# Altium footprint library Misc.PcbLib: 150 footprints (part 8 of 10)
Each footprint in its own frame and in the unit in brackets; x right, y up, seen from the top. Pads: shape width x height; smd on the part's side, far side on the other; paste and mask are expansions set on the pad; w line width, h text height; cw(c..) or ccw(c..) is an arc to the next point about the centre after c.
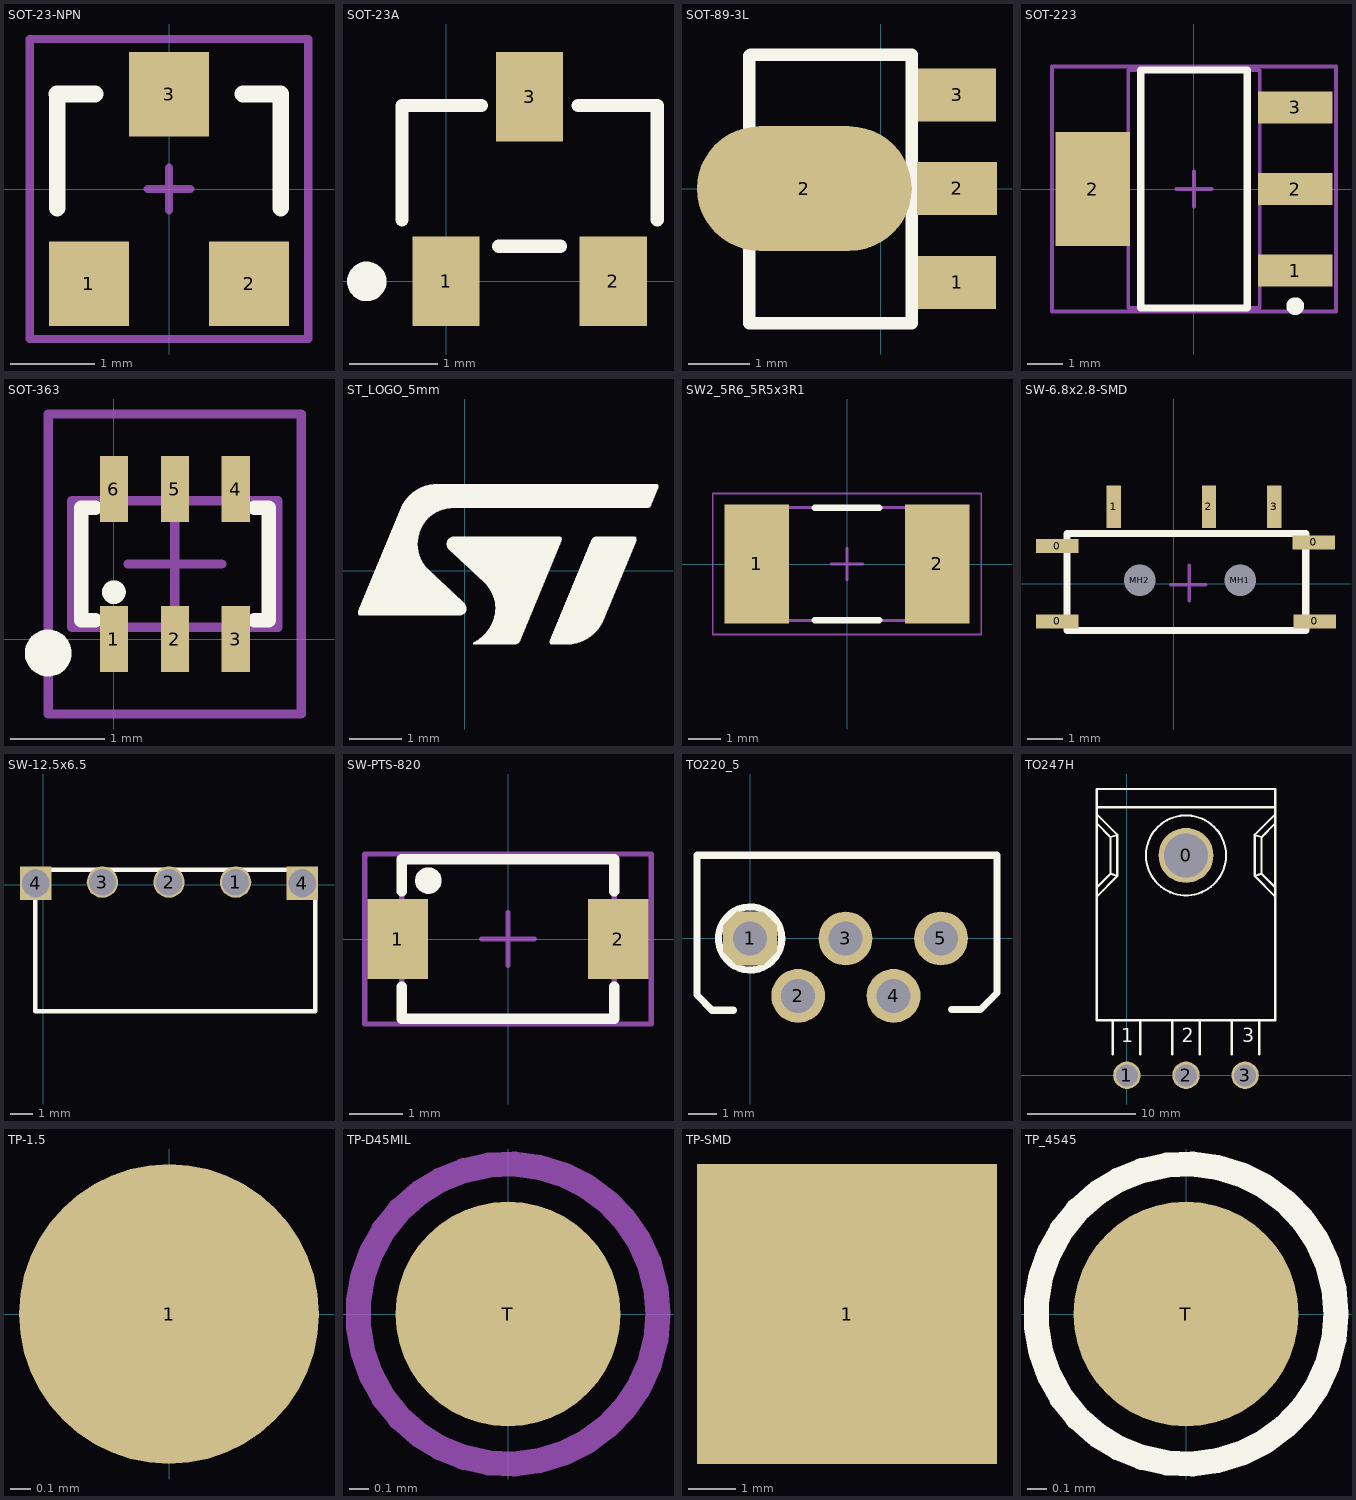
[diagram p7: the footprints below, top view; thin cyan lines are the x and y axes]

## SOT-23-NPN [mm] "Surface mount NPN transistor, package SOT-23"
height 1.1
pads (3):
  rect 0.95x1 smd: 1(-0.95,-1.125) 2(0.95,-1.125) 3(0,1.125)
Top Overlay:
  lines w0.2: -1.328,1.125 -0.875,1.125 ; -1.325,-0.225 -1.325,1.125 ; 0.875,1.125 1.325,1.125 1.325,-0.225
Mechanical 15:
  lines w0.1: -0.254,0 0.254,0 ; 0,-0.254 0,0.254 ; -1.651,-1.778 -1.651,1.778 1.651,1.778 1.651,-1.778 -1.651,-1.778
3D body: height 1.3, standoff 0, extent -1.448,-1.397 1.452,1.403

## SOT-23A [mil] "SOT-23 footprint"
height 43.31
pads (3):
  rect 30x40 smd: 1(0,0) 2(74.8,0) 3(37.4,82.68)
Top Overlay:
  circle w9.84: c-35.43,0 r3.94
  lines w5.91: -19.68,27.56 -19.68,78.74 15.75,78.74 ; 23.62,15.75 51.18,15.75 ; 59.06,78.74 94.49,78.74 94.49,27.56
3D body: height 39.37, standoff 0, extent -20.07,-4.72 94.89,87.41

## SOT-89-3L [mil]
pads (4):
  rect 50x34 smd: 1(49,-60.15) 3(49,60.15)
  oval 137.8x80 smd: 2(-49,0)
  rect 51.18x34 smd: 2(49,0.15)
Top Overlay:
  lines w7.87: -84.36,-86.49 19.81,-86.49 19.81,85.96 -83.55,85.96
  lines w8: -84.36,-86.49 -84.36,85.15

## SOT-223 [mm] "3 LEAD SOT-223 PLASTIC PACKAGE"
height 1.8
pads (4):
  rect 2.1x0.9 smd: 1(2.85,-2.3) 2(2.85,0) 3(2.85,2.3)
  rect 2.1x3.2 smd: 2(-2.85,0)
Top Overlay:
  circle w0.25: c2.85,-3.3 r0.125
  lines w0.2: -1.5,-3.35 -1.5,3.35 1.5,3.35 1.5,-3.35 -1.5,-3.35
Mechanical 13:
  lines w0.1: -1.85,-3.35 -1.85,3.35 1.85,3.35 1.85,-3.35 -1.85,-3.35
Mechanical 15:
  lines w0.1: -0.5,0 0.5,0 ; 0,-0.5 0,0.5 ; -4,-3.45 -4,3.45 4,3.45 4,-3.45 -4,-3.45
3D body: height 1.65, standoff 0, extent -3.543,-3.25 3.543,3.25

## SOT-363 [mm] "SOT-363 (SC88)"
height 1.1
pads (6):
  rect 0.3x0.7 smd: 1(0,0) 2(0.65,0) 3(1.3,0) 4(1.3,1.6) 5(0.65,1.6) 6(0,1.6)
Top Overlay:
  circle w0.152: c0,0.5 r0.05
  circle w0.25: c-0.7,-0.15 r0.125
  lines w0.152: -0.2,0.2 -0.35,0.2 -0.35,1.4 -0.2,1.4 ; 1.5,0.2 1.65,0.2 1.65,1.4 1.5,1.4
Mechanical 13:
  lines w0.1: -0.45,0.125 -0.45,1.475 1.75,1.475 1.75,0.125 -0.45,0.125
Mechanical 15:
  lines w0.1: 0.15,0.8 1.15,0.8 ; 0.65,0.3 0.65,1.3 ; -0.7,-0.8 -0.7,2.4 2,2.4 2,-0.8 -0.7,-0.8
3D body: height 0.93, standoff -0.02, extent -0.35,-0.25 1.65,1.85

## ST_LOGO_5mm [mil]
height 62.99
Top Overlay:
  drawing of 1036 lines, arcs and shapes, not listed

## SW2_5R6_5R5x3R1 [mm] "Subminiature Side Actuated Tact Switch for SMT"
height 1.1
pads (2):
  rect 2x3.7 smd: 1(-2.8,0) 2(2.8,0)
Top Overlay:
  lines w0.2: -1,-1.75 1,-1.75 ; -1,1.75 1,1.75
Mechanical 13:
  lines w0.1: -2.75,-1.75 -2.75,1.75 2.75,1.75 2.75,-1.75 -2.75,-1.75
Mechanical 15:
  lines w0.05: -4.166,-2.184 -4.166,2.184 4.166,2.184 4.166,-2.184 -4.166,-2.184
  lines w0.1: -0.5,0 0.5,0 ; 0,-0.5 0,0.5
3D body: height 1.65, standoff 0.65, extent -1.25,-2.705 1.25,-1.714
3D body: height 1.65, standoff 0, extent -2.75,-1.75 2.75,1.75
3D body: height 1, standoff 0, extent -1.2,-0.9 1.2,0.9

## SW-6.8x2.8-SMD [mm] "6.8MM,2.8MM,SMD"
pads (9):
  rect 1.2x0.4 smd: 0(-3.302,-1.067) 0(-3.302,1.067) 0(3.962,1.168) 0(3.988,-1.067)
  rect 0.4x1.2 smd: 1(-1.702,2.184) 2(0.991,2.184) 3(2.839,2.184)
  round 0.6 hole 0.9 unplated: MH1(1.88,0.102) MH2(-0.965,0.102)
Top Overlay:
  lines w0.203: -3.023,1.27 -3.023,1.422 3.734,1.422 3.734,-0.94 ; -3.023,1.295 -3.023,-1.321 3.734,-1.321 3.734,-0.838
Mechanical 13:
  lines w0.1: -3.023,-1.27 3.684,-1.27 3.684,1.397 -3.023,1.397 -3.023,-1.27
Mechanical 15:
  lines w0.1: -0.094,-0.025 0.906,-0.025 ; 0.432,-0.483 0.432,0.517
3D body: height 1.1, standoff 0, extent -2.946,-1.219 3.634,1.321

## SW-12.5x6.5 [mm] "12.5*6.5MM"
pads (5):
  round 1.4 hole 1.2: 1(8.623,0.126) 2(5.639,0.126) 3(2.654,0.126)
  rect 1.4x1.5 hole 1.2 slot 1.25 at 90 deg: 4(-0.33,0.076) 4(11.608,0.076)
Top Overlay:
  lines w0.2: -0.356,-5.664 -0.356,0.686 12.192,0.686 12.192,-5.664 -0.356,-5.664

## SW-PTS-820 [mm] "SMT Tactile ?Switch PTS 820 Series"
height 2
pads (4):
  rect 1.143x1.5 smd: 1(-2.075,0) 2(2.075,0)
  round 0 all layers, no hole paste-2.54 mask-2.54: MH1(0,0.9) MH2(0,-0.9)
Top Overlay:
  circle w0.25: c-1.5,1.1 r0.125
  lines w0.2: -2,-0.9 -2,-1.5 2,-1.5 2,-0.9 ; -2,0.9 -2,1.5 2,1.5 2,0.9
Mechanical 13:
  lines w0.1: -2,-1.5 -2,1.5 2,1.5 2,-1.5 -2,-1.5
Mechanical 15:
  lines w0.1: -0.5,0 0.5,0 ; 0,-0.5 0,0.5 ; -2.7,-1.6 -2.7,1.6 2.7,1.6 2.7,-1.6 -2.7,-1.6
3D body: height 2.05, standoff -0.5, extent -2.25,-1.55 2.25,1.55

## TO220_5 [mil]
pads (5):
  oct 75x75 hole 47.24: 1(0,0)
  round 75 hole 47.24: 2(67,-80) 3(133,0) 4(200,-80) 5(266,0)
Top Overlay:
  circle w10: c0,0 r44
  lines w10: -23,-100 -53,-100 -74.02,-78.98 -74.02,52.76 -74.02,116 344.09,116 344.09,56.38 344.09,-75.91 320.91,-99.09 280.91,-99.09
3D body: height 761.81, standoff -89.06, extent -66.14,-82.69 333.86,110.24

## TO247H [mil]
pads (4):
  round 200 hole 160: 0(215,800)
  round 100 hole 80: 1(0,0) 2(215,0) 3(430,0)
Top Overlay:
  circle w7.87: c215,800 r145.6
  lines w7.87: -110,650 -35,725 ; -110,683.33 -60,733.33 ; -110,916.67 -60,866.67 ; -110,950 -35,875 ; -110,975 540,975 ; -51.67,75 -51.67,200 ; 48.33,75 48.33,200 ; 165,75 165,200 ; 265,75 265,200 ; 381.67,75 381.67,200 ; 481.67,75 481.67,200 ; 540,650 465,725 ; 540,683.33 490,733.33 ; 540,916.67 490,866.67 ; 540,950 465,875 ; -60,733.33 -35,725 ; -60,733.33 -60,866.67 ; -60,866.67 -35,875 ; -35,725 -35,875 ; 465,725 490,733.33 ; 465,725 465,875 ; 465,875 490,866.67 ; 490,733.33 490,866.67 ; -110,200 -110,1041.67 540,1041.67 540,200 -110,200
  text "3" at 420,120 h50
  text "2" at 200,120 h50
  text "1" at -20,120 h50
3D body: height 153.54, standoff -314.96, extent -90,0 520.24,1000

## TP-1.5 [mm]
pads (1):
  round 1.5 smd: 1(0,0)

## TP-D45MIL [mil] "TP-D45MIL"
pads (1):
  rrect100% 45x45 smd: T(0,0)
Mechanical 3:
Mechanical 16:
  circle w5: c0,0 r30

## TP-SMD [mil] "PCB TouchPad"
pads (1):
  rect 250x250 smd: 1(-49510,-49455)

## TP_4545 [mil] "TP_4545"
pads (1):
  rrect100% 45x45 smd: T(0,0)
Top Overlay:
  circle w5: c0,0 r30
Mechanical 3: